# EAGLE library part WANNENSTECKER (library selfmade)
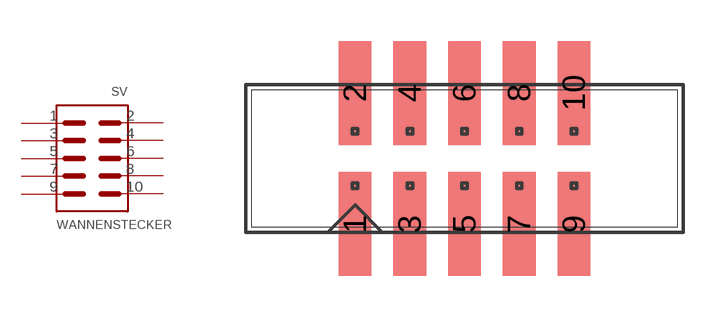
[diagram p3: symbol with the pads of SMD-WANNENSTECKER; footprint SMD-WANNENSTECKER]

Designator prefix SV

## WANNENSTECKER  [SMD-WANNENSTECKER]
1  1
2  2
3  3
4  4
5  5
6  6
7  7
8  8
9  9
10  10

## Footprint SMD-WANNENSTECKER (pad centres in mm)
smd 1.2 x 3.8: 1 -4,-2.4; 2 -4,2.4; 3 -2,-2.4; 4 -2,2.4; 5 0,-2.4; 6 0,2.4; 7 2,-2.4; 8 2,2.4; 9 4,-2.4; 10 4,2.4